# Altium schematic symbol library QUTMS_PowerSupplyLibrary.SchLib: 5 symbols
Pins are listed as number, name and electrical type; pins without a type are passive.

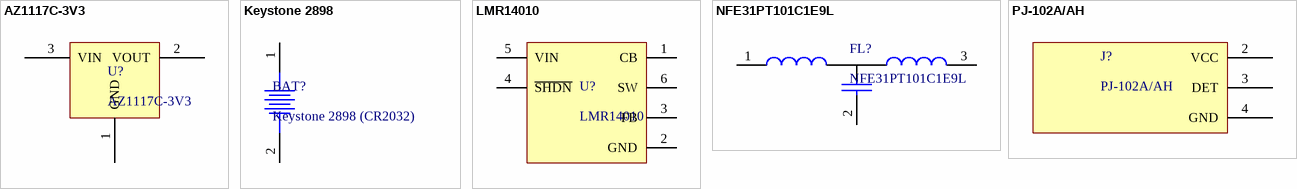
[diagram p0: symbols AZ1117C-3V3 to PJ-102A/AH]

## AZ1117C-3V3
designator U?
Linear Voltage Regulator IC 1 Output 1A SOT-223
footprint SOT-223
pins: 1 GND, 2 VOUT, 3 VIN

## Keystone 2898
designator BAT?, comment Keystone 2898 (CR2032)
Battery Retainer Coin, 20.0mm 1 Cell SMD (SMT) Tab
footprint Keystone 2898
pins: 1 0, 2 1

## LMR14010
designator U?
Buck Switching Regulator IC Positive Adjustable 0.765V 1 Output 1A SOT-23-6 Thin, TSOT-23-6
footprint LMR14010
pins: 1 CB, 2 GND, 3 FB, 4 ~{SHDN}, 5 VIN, 6 SW

## NFE31PT101C1E9L
designator FL?
LC (T-Type) EMI Filter 3rd Order Low Pass 1 Channel C = 100pF 6A 1206 (3216 Metric), 3 PC Pad
footprint NFE31PT101C1E9L
pins: 1, 2, 3

## PJ-102A/AH
designator J?
Power Barrel Connector Jack 2.00mm ID (0.079"), 5.50mm OD (0.217") Through Hole, Right Angle
footprint PJ-102A/AH
pins: 2 VCC, 3 DET, 4 GND